# Altium footprint library DecodeBufferLatch.PcbLib: 13 footprints
Each footprint in its own frame and in the unit in brackets; x right, y up, seen from the top. Pads: shape width x height; smd on the part's side, far side on the other; paste and mask are expansions set on the pad; w line width, h text height; cw(c..) or ccw(c..) is an arc to the next point about the centre after c.
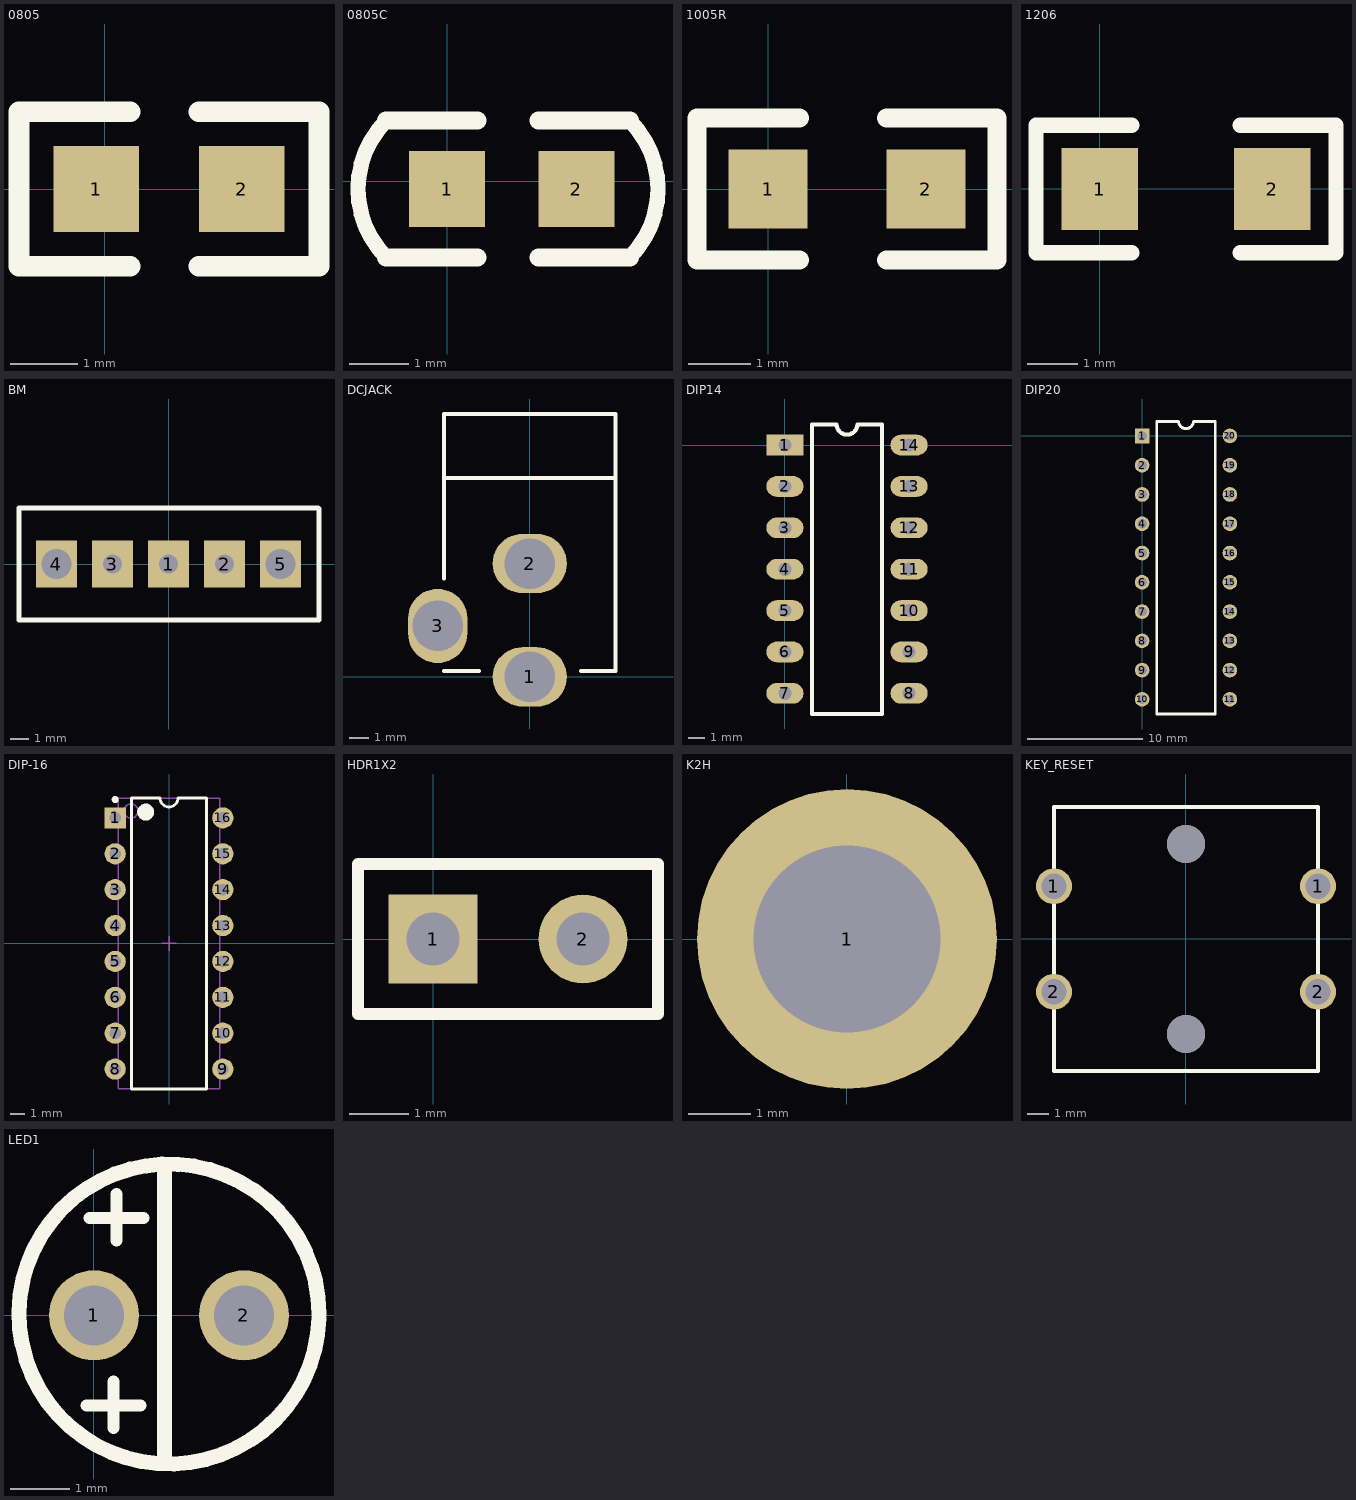
[diagram p0: the footprints below, top view; thin cyan lines are the x and y axes]

## 0805 [mil]
pads (2):
  rect 50x50 smd: 1(-5,0) 2(80,0)
Top Overlay:
  lines w12: 15,-45 -50,-45 -50,45 15,45 ; 55,-45 125,-45 125,45 55,45

## 0805C [mil]
pads (2):
  rect 50x50 smd: 1(0,-5) 2(85,-5)
Top Overlay:
  lines w10: -40,-50 cw(c5,-5) -40,40 ; 120,-50 ccw(c75,-5) 120,40
  lines w12: -40,-50 20,-50 ; -40,40 20,40 ; 60,-50 120,-50 ; 60,40 120,40

## 1005R [mil] "0R or FUSE"
pads (2):
  rect 50x50 smd: 1(0,0) 2(100,0)
Top Overlay:
  lines w12: 20,-45 -45,-45 -45,45 20,45 ; 75,-45 145,-45 145,45 75,45

## 1206 [mil]
pads (2):
  rect 60x63.94 smd: 1(0,0) 2(135,0)
Top Overlay:
  lines w12: 25,-50 -50,-50 -50,50 25,50 ; 110,-50 185,-50 185,50 110,50

## BM [mm]
pads (5):
  rect 2.2x2.5 hole 1 square: 1(0,0) 2(3,0) 3(-3,0)
  rect 2.2x2.5 hole 1.6 square: 4(-6,0) 5(6,0)
Top Overlay:
  lines w0.254: 8,3 -8,3 -8,-3 8.052,-3 8.052,2.984

## DCJACK [mil]
pads (3):
  oval 150x120 hole 102: 1(0,0) 2(0,229)
  oval 120x150 hole 102: 3(-186,103)
Top Overlay:
  lines w8: -173,12 -103,12 ; -173,199 -173,531 173,531 173,12 103,12 ; -173,402 173,402

## DIP14 [mil] "14脚300mil直插集成电路（蒜米工坊）"
pads (14):
  rect 90x50 hole 32: 1(0,0)
  oval 90x50 hole 32: 2(0,-100) 3(0,-200) 4(0,-300) 5(0,-400) 6(0,-500) 7(0,-600) 8(300,-600) 9(300,-500) 10(300,-400) 11(300,-300) 12(300,-200) 13(300,-100) 14(300,0)
Top Overlay:
  lines w10: 65,-650 65,50 125,50 ccw(c150,50) 175,50 235,50 235,-650 65,-650

## DIP20 [mil]
pads (20):
  rect 50x50 hole 32: 1(0,0)
  round 50 hole 32: 2(0,-100) 3(0,-200) 4(0,-300) 5(0,-400) 6(0,-500) 7(0,-600) 8(0,-700) 9(0,-800) 10(0,-900) 11(300,-900) 12(300,-800) 13(300,-700) 14(300,-600) 15(300,-500) 16(300,-400) 17(300,-300) 18(300,-200) 19(300,-100) 20(300,0)
Top Overlay:
  lines w10: 50,-950 250,-950 250,50 175,50 cw(c150,50) 125,50 50,50 50,-950

## DIP-16 [mm] "DIP; 16 Leads; Row Spacing 7.62 mm; Pitch 2.54 mm"
height 5.08
pads (16):
  rect 1.5x1.5 hole 0.813: 1(-3.81,8.89)
  round 1.5 hole 0.813: 2(-3.81,6.35) 3(-3.81,3.81) 4(-3.81,1.27) 5(-3.81,-1.27) 6(-3.81,-3.81) 7(-3.81,-6.35) 8(-3.81,-8.89) 9(3.81,-8.89) 10(3.81,-6.35) 11(3.81,-3.81) 12(3.81,-1.27) 13(3.81,1.27) 14(3.81,3.81) 15(3.81,6.35) 16(3.81,8.89)
Top Overlay:
  circle w0.25: c-3.81,10.19 r0.125
  circle w0.6: c-1.65,9.3 r0.3
  lines w0.2: -2.65,-10.3 -2.65,10.3 -0.635,10.3 ccw(c0,10.3) 0.635,10.3 2.65,10.3 2.65,-10.3 -2.65,-10.3
Mechanical 13:
  circle w0.1: c-2.7,9.375 r0.5
  lines w0.1: -3.6,-10.275 -3.6,10.275 3.6,10.275 3.6,-10.275 -3.6,-10.275
Mechanical 15:
  lines w0.1: -0.5,0 0.5,0 ; 0,-0.5 0,0.5
3D body: height 5.08, standoff 0, extent -3.6,-10.275 3.6,10.275

## HDR1X2 [mm] "Connector; Header; 2 Position"
pads (2):
  rect 1.5x1.5 hole 0.9: 1(0,0)
  round 1.5 hole 0.9: 2(2.54,0)
Top Overlay:
  lines w0.2: -1.27,-1.27 3.81,-1.27 3.81,1.27 -1.27,1.27 -1.27,-1.27

## K2H [mm]
pads (1):
  round 4.8 hole 3: 1(0,0)

## KEY_RESET [mm] "12mmx12mmx7mm微动拨码开关"
pads (6):
  round 1.7 hole 1.2: 1(-6.25,2.5) 1(6.25,2.5) 2(-6.25,-2.5) 2(6.25,-2.5)
  round 1.8 hole 1.8: ""(0,-4.5) ""(0,4.5)
Top Overlay:
  lines w0.203: -6.25,-6.25 6.25,-6.25 6.25,6.25 -6.25,6.25 -6.25,-6.25

## LED1 [mil]
pads (2):
  round 60 hole 40: 1(0,0) 2(100,0)
Top Overlay:
  lines w8: -5,-60 31,-60 ; -3,65 33,65 ; 13,-75 13,-44 ; 15,50 15,81
  lines w10: 47,-95 47,98 ; 150,-2 cw(c50.04,0.86) 150.04,0.86